# Altium integrated library ALTIUM-WL-SBCW-rev17b.IntLib: 2 symbols
Pins are listed as number, name and electrical type; pins without a type are passive.

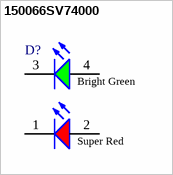
[diagram p0: symbol 150066SV74000]

## 150066SV74000
designator D?
WL-SBCW SMD Bi-color Chip LED Waterclear, size 0606, Super Red & Bright Green; Part Number: 150066SV74000; Viewing Angle: 130°; Published Date: Jan 2017; Publisher: Wurth Elektronik; ComponentLink1Description: Manufacturer; ComponentLink1URL: http://www.we-online.de; ComponentLink2Description: Datasheet; ComponentLink2URL: http://katalog.we-online.de/led/datasheet/150066SV74000.pdf; Size: 0606; Emitting Color: Super Red & Bright Green
footprint WL-SBCW_0606 (SMD Bi-color Chip LED Waterclear, body 1.6x1.6mm)
pins: 1 K, 2 A, 3 K, 4 A
text: Bright Green; Super Red


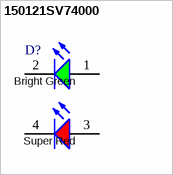
[diagram p1: symbol 150121SV74000]

## 150121SV74000
designator D?
WL-SBCW SMD Bi-color Chip LED Waterclear, size 1210, Super Red & Bright Green; Part Number: 150121SV74000; Viewing Angle: 130°; Published Date: Jan 2017; Publisher: Wurth Elektronik; ComponentLink1Description: Manufacturer; ComponentLink1URL: http://www.we-online.de; ComponentLink2Description: Datasheet; ComponentLink2URL: http://katalog.we-online.de/led/datasheet/150121SV74000.pdf; Size: 1210; Emitting Color: Super Red & Bright Green
footprint WL-SBCW_1210 (SMD Bi-color Chip LED Waterclear, body 3.2x2.7mm)
pins: 1 A, 2 K, 3 A, 4 K
text: Bright Green; Super Red